# EAGLE library part TS12A12511 (library Zoli2_2015-02-22)
Single-Channel SPDT Analog Switch Source: http://www.ti.com/lit/ds/symlink/ts12a12511.pdf
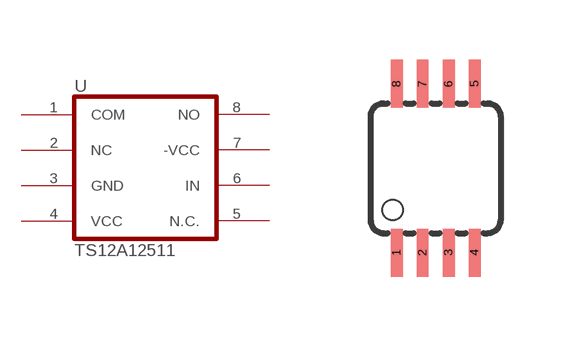
[diagram p76: symbol with the pads of MSOP08; footprint MSOP08]

Designator prefix -

## TS12A12511  [MSOP08]
1  COM
2  NC
3  GND  pwr
4  VCC  pwr
5  N.C.  nc
6  IN  in
7  -VCC  pwr
8  NO

## Footprint MSOP08 (pad centres in mm)
Mini Small Outline Package
smd 0.3 x 1.2: 1 -0.976,-2.113; 2 -0.326,-2.113; 3 0.324,-2.113; 4 0.974,-2.113; 5 0.974,2.112; 6 0.324,2.112; 7 -0.326,2.112; 8 -0.976,2.112